# EAGLE library part HW-290/GY87 (library mestrado)
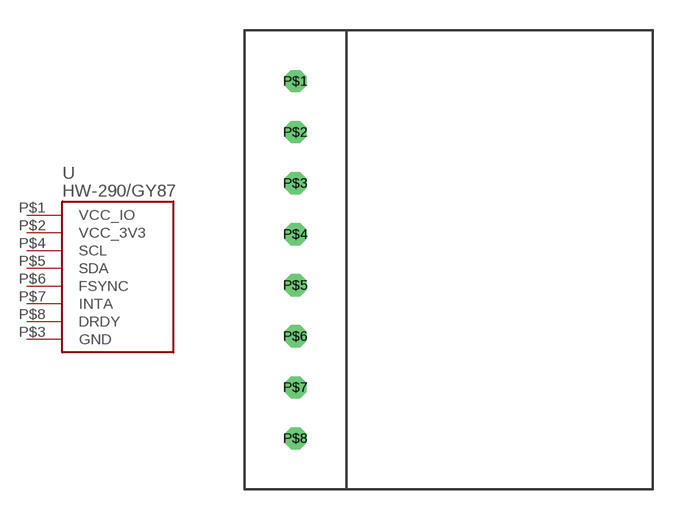
[diagram p13: symbol with the pads of HW-290/GY-87; footprint HW-290/GY-87]

Designator prefix U

## HW-290/GY87  [HW-290/GY-87]
P$1  VCC_IO
P$2  VCC_3V3
P$3  GND
P$4  SCL
P$5  SDA
P$6  FSYNC
P$7  INTA
P$8  DRDY

## Footprint HW-290/GY-87 (pad centres in mm)
drill 0.6 octagon: P$1 -10.16,10.16; P$2 -10.16,7.62; P$3 -10.16,5.08; P$4 -10.16,2.54; P$5 -10.16,0; P$6 -10.16,-2.54; P$7 -10.16,-5.08; P$8 -10.16,-7.62